# Altium footprint library Package_CSP.PcbLib: 127 footprints (part 6 of 8)
Each footprint in its own frame and in the unit in brackets; x right, y up, seen from the top. Pads: shape width x height; smd on the part's side, far side on the other; paste and mask are expansions set on the pad; w line width, h text height; cw(c..) or ccw(c..) is an arc to the next point about the centre after c.
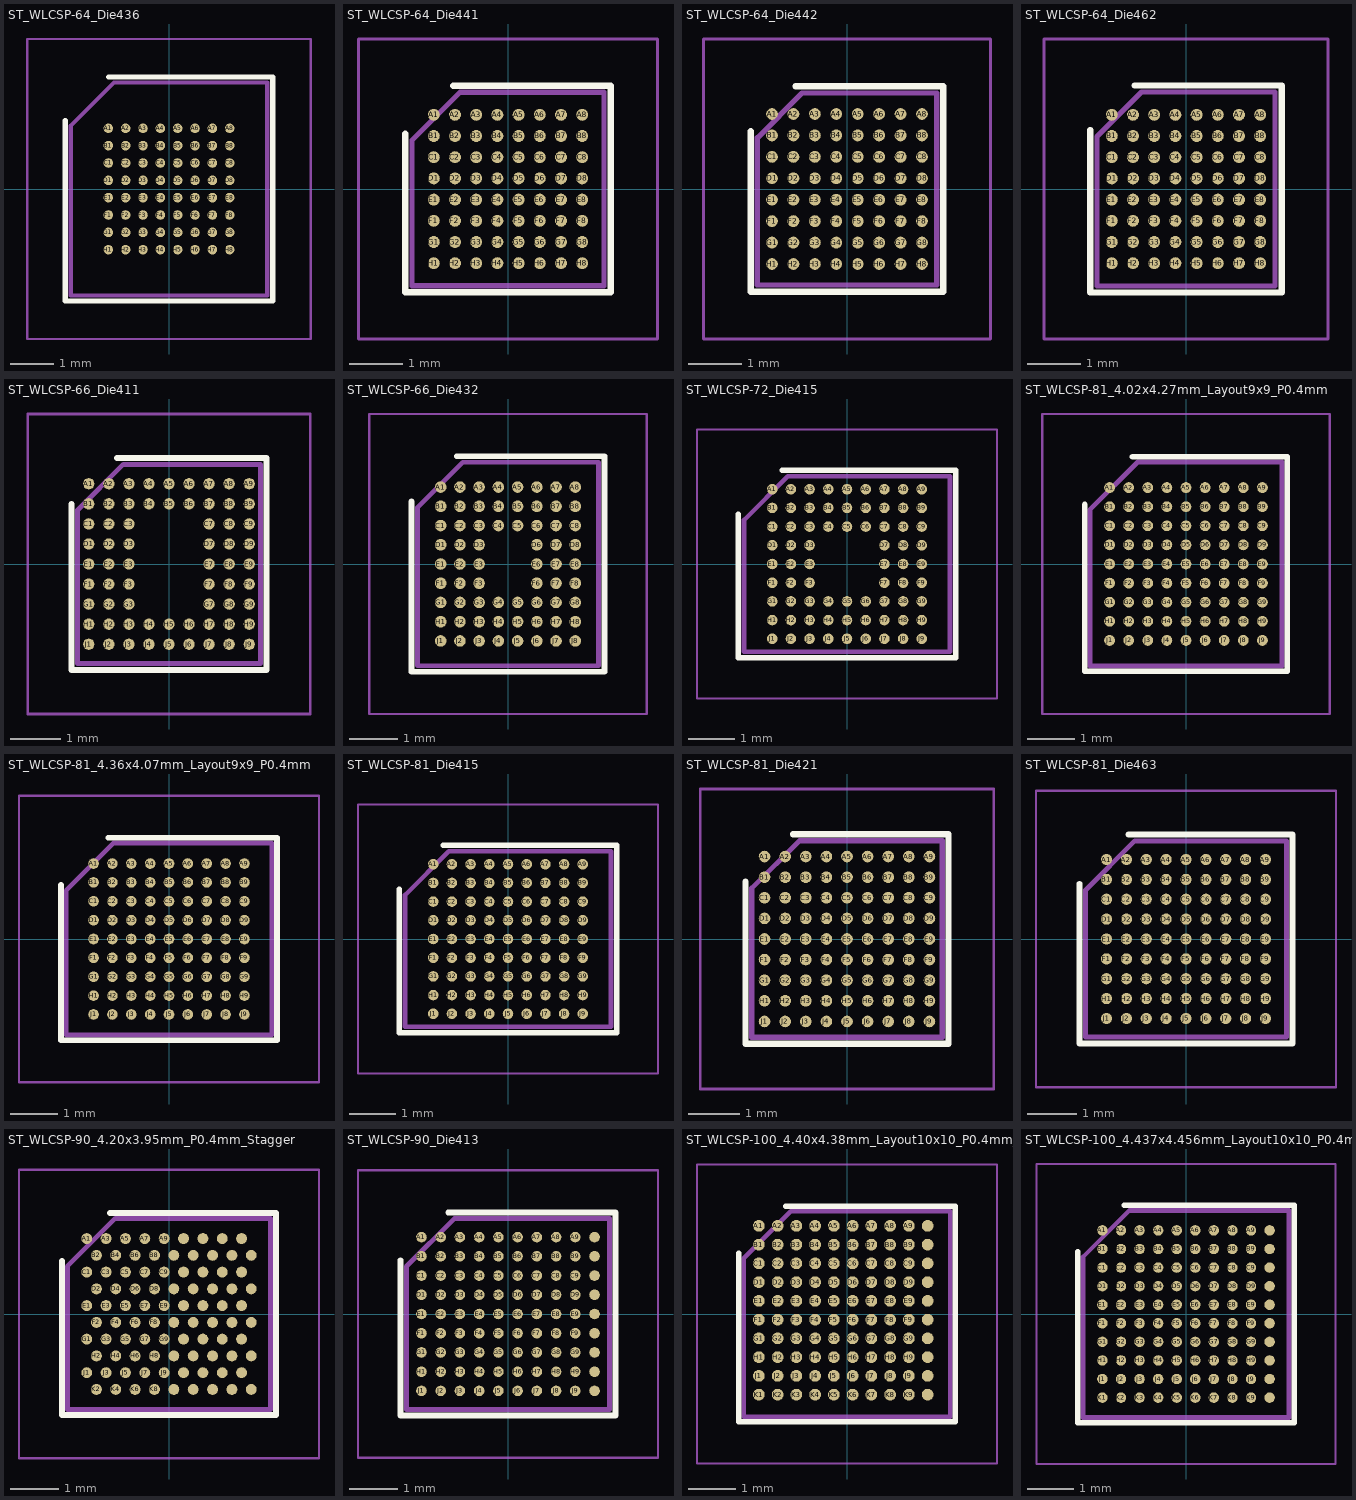
[diagram p5: the footprints below, top view; thin cyan lines are the x and y axes]

## ST_WLCSP-64_Die436 [mm]
pads (64):
  round 0.22 smd: A1(-1.4,1.4) A2(-1,1.4) A3(-0.6,1.4) A4(-0.2,1.4) A5(0.2,1.4) A6(0.6,1.4) A7(1,1.4) A8(1.4,1.4) B1(-1.4,1) B2(-1,1) B3(-0.6,1) B4(-0.2,1) B5(0.2,1) B6(0.6,1) B7(1,1) B8(1.4,1) C1(-1.4,0.6) C2(-1,0.6) C3(-0.6,0.6) C4(-0.2,0.6) C5(0.2,0.6) C6(0.6,0.6) C7(1,0.6) C8(1.4,0.6) D1(-1.4,0.2) D2(-1,0.2) D3(-0.6,0.2) D4(-0.2,0.2) D5(0.2,0.2) D6(0.6,0.2) D7(1,0.2) D8(1.4,0.2) E1(-1.4,-0.2) E2(-1,-0.2) E3(-0.6,-0.2) E4(-0.2,-0.2) E5(0.2,-0.2) E6(0.6,-0.2) E7(1,-0.2) E8(1.4,-0.2) F1(-1.4,-0.6) F2(-1,-0.6) F3(-0.6,-0.6) F4(-0.2,-0.6) F5(0.2,-0.6) F6(0.6,-0.6) F7(1,-0.6) F8(1.4,-0.6) G1(-1.4,-1) G2(-1,-1) G3(-0.6,-1) G4(-0.2,-1) G5(0.2,-1) G6(0.6,-1) G7(1,-1) G8(1.4,-1) H1(-1.4,-1.4) H2(-1,-1.4) H3(-0.6,-1.4) H4(-0.2,-1.4) H5(0.2,-1.4) H6(0.6,-1.4) H7(1,-1.4) H8(1.4,-1.4)
F.SilkS:
  lines w0.12: -2.395,1.58 -2.395,-2.581 2.395,-2.581 2.395,2.581 -1.395,2.581
F.CrtYd:
  lines w0.05: -3.27,-3.46 3.27,-3.46 3.27,3.46 -3.27,3.46 -3.27,-3.46
F.Fab:
  lines w0.1: -2.27,-2.455 -2.27,1.455 -1.269,2.455 2.27,2.455 2.27,-2.455 -2.27,-2.455
  text "'.Designator'" at -4.047,-0.84 h1

## ST_WLCSP-64_Die441 [mm]
pads (64):
  round 0.225 smd: A1(-1.4,1.4) A2(-1,1.4) A3(-0.6,1.4) A4(-0.2,1.4) A5(0.2,1.4) A6(0.6,1.4) A7(1,1.4) A8(1.4,1.4) B1(-1.4,1) B2(-1,1) B3(-0.6,1) B4(-0.2,1) B5(0.2,1) B6(0.6,1) B7(1,1) B8(1.4,1) C1(-1.4,0.6) C2(-1,0.6) C3(-0.6,0.6) C4(-0.2,0.6) C5(0.2,0.6) C6(0.6,0.6) C7(1,0.6) C8(1.4,0.6) D1(-1.4,0.2) D2(-1,0.2) D3(-0.6,0.2) D4(-0.2,0.2) D5(0.2,0.2) D6(0.6,0.2) D7(1,0.2) D8(1.4,0.2) E1(-1.4,-0.2) E2(-1,-0.2) E3(-0.6,-0.2) E4(-0.2,-0.2) E5(0.2,-0.2) E6(0.6,-0.2) E7(1,-0.2) E8(1.4,-0.2) F1(-1.4,-0.6) F2(-1,-0.6) F3(-0.6,-0.6) F4(-0.2,-0.6) F5(0.2,-0.6) F6(0.6,-0.6) F7(1,-0.6) F8(1.4,-0.6) G1(-1.4,-1) G2(-1,-1) G3(-0.6,-1) G4(-0.2,-1) G5(0.2,-1) G6(0.6,-1) G7(1,-1) G8(1.4,-1) H1(-1.4,-1.4) H2(-1,-1.4) H3(-0.6,-1.4) H4(-0.2,-1.4) H5(0.2,-1.4) H6(0.6,-1.4) H7(1,-1.4) H8(1.4,-1.4)
F.SilkS:
  lines w0.12: -1.937,1.045 -1.937,-1.95 1.937,-1.95 1.937,1.95 -1.031,1.95
F.CrtYd:
  lines w0.05: -2.82,-2.83 2.82,-2.83 2.82,2.83 -2.82,2.83 -2.82,-2.83
F.Fab:
  lines w0.1: -1.812,-1.826 1.812,-1.826 1.812,1.826 -0.906,1.826 -1.812,0.92 -1.812,-1.826
  text "'.Designator'" at -3.399,-0.706 h0.84

## ST_WLCSP-64_Die442 [mm]
pads (64):
  round 0.22 smd: A1(-1.4,1.4) A2(-1,1.4) A3(-0.6,1.4) A4(-0.2,1.4) A5(0.2,1.4) A6(0.6,1.4) A7(1,1.4) A8(1.4,1.4) B1(-1.4,1) B2(-1,1) B3(-0.6,1) B4(-0.2,1) B5(0.2,1) B6(0.6,1) B7(1,1) B8(1.4,1) C1(-1.4,0.6) C2(-1,0.6) C3(-0.6,0.6) C4(-0.2,0.6) C5(0.2,0.6) C6(0.6,0.6) C7(1,0.6) C8(1.4,0.6) D1(-1.4,0.2) D2(-1,0.2) D3(-0.6,0.2) D4(-0.2,0.2) D5(0.2,0.2) D6(0.6,0.2) D7(1,0.2) D8(1.4,0.2) E1(-1.4,-0.2) E2(-1,-0.2) E3(-0.6,-0.2) E4(-0.2,-0.2) E5(0.2,-0.2) E6(0.6,-0.2) E7(1,-0.2) E8(1.4,-0.2) F1(-1.4,-0.6) F2(-1,-0.6) F3(-0.6,-0.6) F4(-0.2,-0.6) F5(0.2,-0.6) F6(0.6,-0.6) F7(1,-0.6) F8(1.4,-0.6) G1(-1.4,-1) G2(-1,-1) G3(-0.6,-1) G4(-0.2,-1) G5(0.2,-1) G6(0.6,-1) G7(1,-1) G8(1.4,-1) H1(-1.4,-1.4) H2(-1,-1.4) H3(-0.6,-1.4) H4(-0.2,-1.4) H5(0.2,-1.4) H6(0.6,-1.4) H7(1,-1.4) H8(1.4,-1.4)
F.SilkS:
  lines w0.12: -1.799,1.081 -1.799,-1.917 1.799,-1.917 1.799,1.917 -0.962,1.917
F.CrtYd:
  lines w0.05: -2.68,-2.8 2.68,-2.8 2.68,2.8 -2.68,2.8 -2.68,-2.8
F.Fab:
  lines w0.1: -1.673,-1.793 -1.673,0.956 -0.837,1.793 1.673,1.793 1.673,-1.793 -1.673,-1.793
  text "'.Designator'" at -3.156,-0.655 h0.78

## ST_WLCSP-64_Die462 [mm]
pads (64):
  round 0.225 smd: A1(-1.4,1.4) A2(-1,1.4) A3(-0.6,1.4) A4(-0.2,1.4) A5(0.2,1.4) A6(0.6,1.4) A7(1,1.4) A8(1.4,1.4) B1(-1.4,1) B2(-1,1) B3(-0.6,1) B4(-0.2,1) B5(0.2,1) B6(0.6,1) B7(1,1) B8(1.4,1) C1(-1.4,0.6) C2(-1,0.6) C3(-0.6,0.6) C4(-0.2,0.6) C5(0.2,0.6) C6(0.6,0.6) C7(1,0.6) C8(1.4,0.6) D1(-1.4,0.2) D2(-1,0.2) D3(-0.6,0.2) D4(-0.2,0.2) D5(0.2,0.2) D6(0.6,0.2) D7(1,0.2) D8(1.4,0.2) E1(-1.4,-0.2) E2(-1,-0.2) E3(-0.6,-0.2) E4(-0.2,-0.2) E5(0.2,-0.2) E6(0.6,-0.2) E7(1,-0.2) E8(1.4,-0.2) F1(-1.4,-0.6) F2(-1,-0.6) F3(-0.6,-0.6) F4(-0.2,-0.6) F5(0.2,-0.6) F6(0.6,-0.6) F7(1,-0.6) F8(1.4,-0.6) G1(-1.4,-1) G2(-1,-1) G3(-0.6,-1) G4(-0.2,-1) G5(0.2,-1) G6(0.6,-1) G7(1,-1) G8(1.4,-1) H1(-1.4,-1.4) H2(-1,-1.4) H3(-0.6,-1.4) H4(-0.2,-1.4) H5(0.2,-1.4) H6(0.6,-1.4) H7(1,-1.4) H8(1.4,-1.4)
F.SilkS:
  lines w0.12: -1.803,1.114 -1.803,-1.953 1.803,-1.953 1.803,1.953 -0.964,1.953
F.CrtYd:
  lines w0.05: -2.68,-2.83 -2.68,2.83 2.68,2.83 2.68,-2.83 -2.68,-2.83
F.Fab:
  lines w0.1: -1.679,-1.829 1.679,-1.829 1.679,1.829 -0.839,1.829 -1.679,0.989 -1.679,-1.829
  text "'.Designator'" at -3.156,-0.655 h0.78

## ST_WLCSP-66_Die411 [mm]
pads (66):
  round 0.225 smd: A1(-1.6,1.6) A2(-1.2,1.6) A3(-0.8,1.6) A4(-0.4,1.6) A5(0,1.6) A6(0.4,1.6) A7(0.8,1.6) A8(1.2,1.6) A9(1.6,1.6) B1(-1.6,1.2) B2(-1.2,1.2) B3(-0.8,1.2) B4(-0.4,1.2) B5(0,1.2) B6(0.4,1.2) B7(0.8,1.2) B8(1.2,1.2) B9(1.6,1.2) C1(-1.6,0.8) C2(-1.2,0.8) C3(-0.8,0.8) C7(0.8,0.8) C8(1.2,0.8) C9(1.6,0.8) D1(-1.6,0.4) D2(-1.2,0.4) D3(-0.8,0.4) D7(0.8,0.4) D8(1.2,0.4) D9(1.6,0.4) E1(-1.6,0) E2(-1.2,0) E3(-0.8,0) E7(0.8,0) E8(1.2,0) E9(1.6,0) F1(-1.6,-0.4) F2(-1.2,-0.4) F3(-0.8,-0.4) F7(0.8,-0.4) F8(1.2,-0.4) F9(1.6,-0.4) G1(-1.6,-0.8) G2(-1.2,-0.8) G3(-0.8,-0.8) G7(0.8,-0.8) G8(1.2,-0.8) G9(1.6,-0.8) H1(-1.6,-1.2) H2(-1.2,-1.2) H3(-0.8,-1.2) H4(-0.4,-1.2) H5(0,-1.2) H6(0.4,-1.2) H7(0.8,-1.2) H8(1.2,-1.2) H9(1.6,-1.2) J1(-1.6,-1.6) J2(-1.2,-1.6) J3(-0.8,-1.6) J4(-0.4,-1.6) J5(0,-1.6) J6(0.4,-1.6) J7(0.8,-1.6) J8(1.2,-1.6) J9(1.6,-1.6)
F.SilkS:
  lines w0.12: -1.944,1.201 -1.944,-2.111 1.944,-2.111 1.944,2.111 -1.035,2.111
F.CrtYd:
  lines w0.05: -2.82,-2.99 -2.82,2.99 2.82,2.99 2.82,-2.99 -2.82,-2.99
F.Fab:
  lines w0.1: -1.82,-1.986 1.82,-1.986 1.82,1.986 -0.91,1.986 -1.82,1.076 -1.82,-1.986
  text "'.Designator'" at -3.44,-0.714 h0.85

## ST_WLCSP-66_Die432 [mm]
pads (66):
  round 0.24 smd: A1(-1.4,1.6) A2(-1,1.6) A3(-0.6,1.6) A4(-0.2,1.6) A5(0.2,1.6) A6(0.6,1.6) A7(1,1.6) A8(1.4,1.6) B1(-1.4,1.2) B2(-1,1.2) B3(-0.6,1.2) B4(-0.2,1.2) B5(0.2,1.2) B6(0.6,1.2) B7(1,1.2) B8(1.4,1.2) C1(-1.4,0.8) C2(-1,0.8) C3(-0.6,0.8) C4(-0.2,0.8) C5(0.2,0.8) C6(0.6,0.8) C7(1,0.8) C8(1.4,0.8) D1(-1.4,0.4) D2(-1,0.4) D3(-0.6,0.4) D6(0.6,0.4) D7(1,0.4) D8(1.4,0.4) E1(-1.4,0) E2(-1,0) E3(-0.6,0) E6(0.6,0) E7(1,0) E8(1.4,0) F1(-1.4,-0.4) F2(-1,-0.4) F3(-0.6,-0.4) F6(0.6,-0.4) F7(1,-0.4) F8(1.4,-0.4) G1(-1.4,-0.8) G2(-1,-0.8) G3(-0.6,-0.8) G4(-0.2,-0.8) G5(0.2,-0.8) G6(0.6,-0.8) G7(1,-0.8) G8(1.4,-0.8) H1(-1.4,-1.2) H2(-1,-1.2) H3(-0.6,-1.2) H4(-0.2,-1.2) H5(0.2,-1.2) H6(0.6,-1.2) H7(1,-1.2) H8(1.4,-1.2) J1(-1.4,-1.6) J2(-1,-1.6) J3(-0.6,-1.6) J4(-0.2,-1.6) J5(0.2,-1.6) J6(0.6,-1.6) J7(1,-1.6) J8(1.4,-1.6)
F.SilkS:
  lines w0.12: -2.008,1.298 -2.008,-2.24 2.008,-2.24 2.008,2.24 -1.067,2.24
F.CrtYd:
  lines w0.05: -2.89,-3.12 2.89,-3.12 2.89,3.12 -2.89,3.12 -2.89,-3.12
F.Fab:
  lines w0.1: -1.883,-2.114 -1.883,1.173 -0.942,2.114 1.883,2.114 1.883,-2.114 -1.883,-2.114
  text "'.Designator'" at -3.561,-0.739 h0.88

## ST_WLCSP-72_Die415 [mm]
pads (72):
  round 0.225 smd: A1(-1.6,1.6) A2(-1.2,1.6) A3(-0.8,1.6) A4(-0.4,1.6) A5(0,1.6) A6(0.4,1.6) A7(0.8,1.6) A8(1.2,1.6) A9(1.6,1.6) B1(-1.6,1.2) B2(-1.2,1.2) B3(-0.8,1.2) B4(-0.4,1.2) B5(0,1.2) B6(0.4,1.2) B7(0.8,1.2) B8(1.2,1.2) B9(1.6,1.2) C1(-1.6,0.8) C2(-1.2,0.8) C3(-0.8,0.8) C4(-0.4,0.8) C5(0,0.8) C6(0.4,0.8) C7(0.8,0.8) C8(1.2,0.8) C9(1.6,0.8) D1(-1.6,0.4) D2(-1.2,0.4) D3(-0.8,0.4) D7(0.8,0.4) D8(1.2,0.4) D9(1.6,0.4) E1(-1.6,0) E2(-1.2,0) E3(-0.8,0) E7(0.8,0) E8(1.2,0) E9(1.6,0) F1(-1.6,-0.4) F2(-1.2,-0.4) F3(-0.8,-0.4) F7(0.8,-0.4) F8(1.2,-0.4) F9(1.6,-0.4) G1(-1.6,-0.8) G2(-1.2,-0.8) G3(-0.8,-0.8) G4(-0.4,-0.8) G5(0,-0.8) G6(0.4,-0.8) G7(0.8,-0.8) G8(1.2,-0.8) G9(1.6,-0.8) H1(-1.6,-1.2) H2(-1.2,-1.2) H3(-0.8,-1.2) H4(-0.4,-1.2) H5(0,-1.2) H6(0.4,-1.2) H7(0.8,-1.2) H8(1.2,-1.2) H9(1.6,-1.2) J1(-1.6,-1.6) J2(-1.2,-1.6) J3(-0.8,-1.6) J4(-0.4,-1.6) J5(0,-1.6) J6(0.4,-1.6) J7(0.8,-1.6) J8(1.2,-1.6) J9(1.6,-1.6)
F.SilkS:
  lines w0.12: -2.329,1.065 -2.329,-2.005 2.329,-2.005 2.329,2.005 -1.389,2.005
F.CrtYd:
  lines w0.05: -3.21,-2.88 -3.21,2.88 3.21,2.88 3.21,-2.88 -3.21,-2.88
F.Fab:
  lines w0.1: -2.204,-1.88 2.204,-1.88 2.204,1.88 -1.264,1.88 -2.204,0.94 -2.204,-1.88
  text "'.Designator'" at -4.047,-0.84 h1

## ST_WLCSP-81_4.02x4.27mm_Layout9x9_P0.4mm [mm]
pads (81):
  round 0.225 smd: A1(-1.6,1.6) A2(-1.2,1.6) A3(-0.8,1.6) A4(-0.4,1.6) A5(0,1.6) A6(0.4,1.6) A7(0.8,1.6) A8(1.2,1.6) A9(1.6,1.6) B1(-1.6,1.2) B2(-1.2,1.2) B3(-0.8,1.2) B4(-0.4,1.2) B5(0,1.2) B6(0.4,1.2) B7(0.8,1.2) B8(1.2,1.2) B9(1.6,1.2) C1(-1.6,0.8) C2(-1.2,0.8) C3(-0.8,0.8) C4(-0.4,0.8) C5(0,0.8) C6(0.4,0.8) C7(0.8,0.8) C8(1.2,0.8) C9(1.6,0.8) D1(-1.6,0.4) D2(-1.2,0.4) D3(-0.8,0.4) D4(-0.4,0.4) D5(0,0.4) D6(0.4,0.4) D7(0.8,0.4) D8(1.2,0.4) D9(1.6,0.4) E1(-1.6,0) E2(-1.2,0) E3(-0.8,0) E4(-0.4,0) E5(0,0) E6(0.4,0) E7(0.8,0) E8(1.2,0) E9(1.6,0) F1(-1.6,-0.4) F2(-1.2,-0.4) F3(-0.8,-0.4) F4(-0.4,-0.4) F5(0,-0.4) F6(0.4,-0.4) F7(0.8,-0.4) F8(1.2,-0.4) F9(1.6,-0.4) G1(-1.6,-0.8) G2(-1.2,-0.8) G3(-0.8,-0.8) G4(-0.4,-0.8) G5(0,-0.8) G6(0.4,-0.8) G7(0.8,-0.8) G8(1.2,-0.8) G9(1.6,-0.8) H1(-1.6,-1.2) H2(-1.2,-1.2) H3(-0.8,-1.2) H4(-0.4,-1.2) H5(0,-1.2) H6(0.4,-1.2) H7(0.8,-1.2) H8(1.2,-1.2) H9(1.6,-1.2) J1(-1.6,-1.6) J2(-1.2,-1.6) J3(-0.8,-1.6) J4(-0.4,-1.6) J5(0,-1.6) J6(0.4,-1.6) J7(0.8,-1.6) J8(1.2,-1.6) J9(1.6,-1.6)
F.SilkS:
  lines w0.12: -2.12,1.245 -2.12,-2.245 2.12,-2.245 2.12,2.245 -1.12,2.245
F.CrtYd:
  lines w0.05: -3.01,-3.14 -3.01,3.14 3.01,3.14 3.01,-3.14 -3.01,-3.14
F.Fab:
  lines w0.1: -2.01,-2.135 2.01,-2.135 2.01,2.135 -1.01,2.135 -2.01,1.135 -2.01,-2.135
  text "'.Designator'" at -0.832,4.006 h0.99

## ST_WLCSP-81_4.36x4.07mm_Layout9x9_P0.4mm [mm]
pads (81):
  round 0.225 smd: A1(-1.6,1.6) A2(-1.2,1.6) A3(-0.8,1.6) A4(-0.4,1.6) A5(0,1.6) A6(0.4,1.6) A7(0.8,1.6) A8(1.2,1.6) A9(1.6,1.6) B1(-1.6,1.2) B2(-1.2,1.2) B3(-0.8,1.2) B4(-0.4,1.2) B5(0,1.2) B6(0.4,1.2) B7(0.8,1.2) B8(1.2,1.2) B9(1.6,1.2) C1(-1.6,0.8) C2(-1.2,0.8) C3(-0.8,0.8) C4(-0.4,0.8) C5(0,0.8) C6(0.4,0.8) C7(0.8,0.8) C8(1.2,0.8) C9(1.6,0.8) D1(-1.6,0.4) D2(-1.2,0.4) D3(-0.8,0.4) D4(-0.4,0.4) D5(0,0.4) D6(0.4,0.4) D7(0.8,0.4) D8(1.2,0.4) D9(1.6,0.4) E1(-1.6,0) E2(-1.2,0) E3(-0.8,0) E4(-0.4,0) E5(0,0) E6(0.4,0) E7(0.8,0) E8(1.2,0) E9(1.6,0) F1(-1.6,-0.4) F2(-1.2,-0.4) F3(-0.8,-0.4) F4(-0.4,-0.4) F5(0,-0.4) F6(0.4,-0.4) F7(0.8,-0.4) F8(1.2,-0.4) F9(1.6,-0.4) G1(-1.6,-0.8) G2(-1.2,-0.8) G3(-0.8,-0.8) G4(-0.4,-0.8) G5(0,-0.8) G6(0.4,-0.8) G7(0.8,-0.8) G8(1.2,-0.8) G9(1.6,-0.8) H1(-1.6,-1.2) H2(-1.2,-1.2) H3(-0.8,-1.2) H4(-0.4,-1.2) H5(0,-1.2) H6(0.4,-1.2) H7(0.8,-1.2) H8(1.2,-1.2) H9(1.6,-1.2) J1(-1.6,-1.6) J2(-1.2,-1.6) J3(-0.8,-1.6) J4(-0.4,-1.6) J5(0,-1.6) J6(0.4,-1.6) J7(0.8,-1.6) J8(1.2,-1.6) J9(1.6,-1.6)
F.SilkS:
  lines w0.12: -2.29,1.145 -2.29,-2.145 2.29,-2.145 2.29,2.145 -1.29,2.145
F.CrtYd:
  lines w0.05: -3.18,-3.04 -3.18,3.04 3.18,3.04 3.18,-3.04 -3.18,-3.04
F.Fab:
  lines w0.1: -2.18,-2.035 2.18,-2.035 2.18,2.035 -1.18,2.035 -2.18,1.035 -2.18,-2.035
  text "'.Designator'" at -4.047,-0.84 h1

## ST_WLCSP-81_Die415 [mm]
pads (81):
  round 0.225 smd: A1(-1.6,1.6) A2(-1.2,1.6) A3(-0.8,1.6) A4(-0.4,1.6) A5(0,1.6) A6(0.4,1.6) A7(0.8,1.6) A8(1.2,1.6) A9(1.6,1.6) B1(-1.6,1.2) B2(-1.2,1.2) B3(-0.8,1.2) B4(-0.4,1.2) B5(0,1.2) B6(0.4,1.2) B7(0.8,1.2) B8(1.2,1.2) B9(1.6,1.2) C1(-1.6,0.8) C2(-1.2,0.8) C3(-0.8,0.8) C4(-0.4,0.8) C5(0,0.8) C6(0.4,0.8) C7(0.8,0.8) C8(1.2,0.8) C9(1.6,0.8) D1(-1.6,0.4) D2(-1.2,0.4) D3(-0.8,0.4) D4(-0.4,0.4) D5(0,0.4) D6(0.4,0.4) D7(0.8,0.4) D8(1.2,0.4) D9(1.6,0.4) E1(-1.6,0) E2(-1.2,0) E3(-0.8,0) E4(-0.4,0) E5(0,0) E6(0.4,0) E7(0.8,0) E8(1.2,0) E9(1.6,0) F1(-1.6,-0.4) F2(-1.2,-0.4) F3(-0.8,-0.4) F4(-0.4,-0.4) F5(0,-0.4) F6(0.4,-0.4) F7(0.8,-0.4) F8(1.2,-0.4) F9(1.6,-0.4) G1(-1.6,-0.8) G2(-1.2,-0.8) G3(-0.8,-0.8) G4(-0.4,-0.8) G5(0,-0.8) G6(0.4,-0.8) G7(0.8,-0.8) G8(1.2,-0.8) G9(1.6,-0.8) H1(-1.6,-1.2) H2(-1.2,-1.2) H3(-0.8,-1.2) H4(-0.4,-1.2) H5(0,-1.2) H6(0.4,-1.2) H7(0.8,-1.2) H8(1.2,-1.2) H9(1.6,-1.2) J1(-1.6,-1.6) J2(-1.2,-1.6) J3(-0.8,-1.6) J4(-0.4,-1.6) J5(0,-1.6) J6(0.4,-1.6) J7(0.8,-1.6) J8(1.2,-1.6) J9(1.6,-1.6)
F.SilkS:
  lines w0.12: -2.329,1.065 -2.329,-2.005 2.329,-2.005 2.329,2.005 -1.389,2.005
F.CrtYd:
  lines w0.05: -3.21,-2.88 -3.21,2.88 3.21,2.88 3.21,-2.88 -3.21,-2.88
F.Fab:
  lines w0.1: -2.204,-1.88 2.204,-1.88 2.204,1.88 -1.264,1.88 -2.204,0.94 -2.204,-1.88
  text "'.Designator'" at -4.047,-0.84 h1

## ST_WLCSP-81_Die421 [mm]
pads (81):
  round 0.225 smd: A1(-1.6,1.6) A2(-1.2,1.6) A3(-0.8,1.6) A4(-0.4,1.6) A5(0,1.6) A6(0.4,1.6) A7(0.8,1.6) A8(1.2,1.6) A9(1.6,1.6) B1(-1.6,1.2) B2(-1.2,1.2) B3(-0.8,1.2) B4(-0.4,1.2) B5(0,1.2) B6(0.4,1.2) B7(0.8,1.2) B8(1.2,1.2) B9(1.6,1.2) C1(-1.6,0.8) C2(-1.2,0.8) C3(-0.8,0.8) C4(-0.4,0.8) C5(0,0.8) C6(0.4,0.8) C7(0.8,0.8) C8(1.2,0.8) C9(1.6,0.8) D1(-1.6,0.4) D2(-1.2,0.4) D3(-0.8,0.4) D4(-0.4,0.4) D5(0,0.4) D6(0.4,0.4) D7(0.8,0.4) D8(1.2,0.4) D9(1.6,0.4) E1(-1.6,0) E2(-1.2,0) E3(-0.8,0) E4(-0.4,0) E5(0,0) E6(0.4,0) E7(0.8,0) E8(1.2,0) E9(1.6,0) F1(-1.6,-0.4) F2(-1.2,-0.4) F3(-0.8,-0.4) F4(-0.4,-0.4) F5(0,-0.4) F6(0.4,-0.4) F7(0.8,-0.4) F8(1.2,-0.4) F9(1.6,-0.4) G1(-1.6,-0.8) G2(-1.2,-0.8) G3(-0.8,-0.8) G4(-0.4,-0.8) G5(0,-0.8) G6(0.4,-0.8) G7(0.8,-0.8) G8(1.2,-0.8) G9(1.6,-0.8) H1(-1.6,-1.2) H2(-1.2,-1.2) H3(-0.8,-1.2) H4(-0.4,-1.2) H5(0,-1.2) H6(0.4,-1.2) H7(0.8,-1.2) H8(1.2,-1.2) H9(1.6,-1.2) J1(-1.6,-1.6) J2(-1.2,-1.6) J3(-0.8,-1.6) J4(-0.4,-1.6) J5(0,-1.6) J6(0.4,-1.6) J7(0.8,-1.6) J8(1.2,-1.6) J9(1.6,-1.6)
F.SilkS:
  lines w0.12: -1.971,1.109 -1.971,-2.033 1.971,-2.033 1.971,2.033 -1.048,2.033
F.CrtYd:
  lines w0.05: -2.85,-2.91 -2.85,2.91 2.85,2.91 2.85,-2.91 -2.85,-2.91
F.Fab:
  lines w0.1: -1.847,-1.907 -1.847,0.984 -0.923,1.907 1.847,1.907 1.847,-1.907 -1.847,-1.907
  text "'.Designator'" at -3.48,-0.723 h0.86

## ST_WLCSP-81_Die463 [mm]
pads (81):
  round 0.225 smd: A1(-1.6,1.6) A2(-1.2,1.6) A3(-0.8,1.6) A4(-0.4,1.6) A5(0,1.6) A6(0.4,1.6) A7(0.8,1.6) A8(1.2,1.6) A9(1.6,1.6) B1(-1.6,1.2) B2(-1.2,1.2) B3(-0.8,1.2) B4(-0.4,1.2) B5(0,1.2) B6(0.4,1.2) B7(0.8,1.2) B8(1.2,1.2) B9(1.6,1.2) C1(-1.6,0.8) C2(-1.2,0.8) C3(-0.8,0.8) C4(-0.4,0.8) C5(0,0.8) C6(0.4,0.8) C7(0.8,0.8) C8(1.2,0.8) C9(1.6,0.8) D1(-1.6,0.4) D2(-1.2,0.4) D3(-0.8,0.4) D4(-0.4,0.4) D5(0,0.4) D6(0.4,0.4) D7(0.8,0.4) D8(1.2,0.4) D9(1.6,0.4) E1(-1.6,0) E2(-1.2,0) E3(-0.8,0) E4(-0.4,0) E5(0,0) E6(0.4,0) E7(0.8,0) E8(1.2,0) E9(1.6,0) F1(-1.6,-0.4) F2(-1.2,-0.4) F3(-0.8,-0.4) F4(-0.4,-0.4) F5(0,-0.4) F6(0.4,-0.4) F7(0.8,-0.4) F8(1.2,-0.4) F9(1.6,-0.4) G1(-1.6,-0.8) G2(-1.2,-0.8) G3(-0.8,-0.8) G4(-0.4,-0.8) G5(0,-0.8) G6(0.4,-0.8) G7(0.8,-0.8) G8(1.2,-0.8) G9(1.6,-0.8) H1(-1.6,-1.2) H2(-1.2,-1.2) H3(-0.8,-1.2) H4(-0.4,-1.2) H5(0,-1.2) H6(0.4,-1.2) H7(0.8,-1.2) H8(1.2,-1.2) H9(1.6,-1.2) J1(-1.6,-1.6) J2(-1.2,-1.6) J3(-0.8,-1.6) J4(-0.4,-1.6) J5(0,-1.6) J6(0.4,-1.6) J7(0.8,-1.6) J8(1.2,-1.6) J9(1.6,-1.6)
F.SilkS:
  lines w0.12: -2.144,1.113 -2.144,-2.101 2.144,-2.101 2.144,2.101 -1.157,2.101
F.CrtYd:
  lines w0.05: -3.02,-2.98 -3.02,2.98 3.02,2.98 3.02,-2.98 -3.02,-2.98
F.Fab:
  lines w0.1: -2.02,-1.976 2.02,-1.976 2.02,1.976 -1.032,1.976 -2.02,0.988 -2.02,-1.976
  text "'.Designator'" at -3.804,-0.79 h0.94

## ST_WLCSP-90_4.20x3.95mm_P0.4mm_Stagger [mm]
pads (90):
  round 0.225 smd: A1(-1.7,1.559) A3(-1.3,1.559) A5(-0.9,1.559) A7(-0.5,1.559) A9(-0.1,1.559) A11(0.3,1.559) A13(0.7,1.559) A15(1.1,1.559) A17(1.5,1.559) B2(-1.5,1.212) B4(-1.1,1.212) B6(-0.7,1.212) B8(-0.3,1.212) B10(0.1,1.212) B12(0.5,1.212) B14(0.9,1.212) B16(1.3,1.212) B18(1.7,1.212) C1(-1.7,0.866) C3(-1.3,0.866) C5(-0.9,0.866) C7(-0.5,0.866) C9(-0.1,0.866) C11(0.3,0.866) C13(0.7,0.866) C15(1.1,0.866) C17(1.5,0.866) D2(-1.5,0.52) D4(-1.1,0.52) D6(-0.7,0.52) D8(-0.3,0.52) D10(0.1,0.52) D12(0.5,0.52) D14(0.9,0.52) D16(1.3,0.52) D18(1.7,0.52) E1(-1.7,0.173) E3(-1.3,0.173) E5(-0.9,0.173) E7(-0.5,0.173) E9(-0.1,0.173) E11(0.3,0.173) E13(0.7,0.173) E15(1.1,0.173) E17(1.5,0.173) F2(-1.5,-0.173) F4(-1.1,-0.173) F6(-0.7,-0.173) F8(-0.3,-0.173) F10(0.1,-0.173) F12(0.5,-0.173) F14(0.9,-0.173) F16(1.3,-0.173) F18(1.7,-0.173) G1(-1.7,-0.52) G3(-1.3,-0.52) G5(-0.9,-0.52) G7(-0.5,-0.52) G9(-0.1,-0.52) G11(0.3,-0.52) G13(0.7,-0.52) G15(1.1,-0.52) G17(1.5,-0.52) H2(-1.5,-0.866) H4(-1.1,-0.866) H6(-0.7,-0.866) H8(-0.3,-0.866) H10(0.1,-0.866) H12(0.5,-0.866) H14(0.9,-0.866) H16(1.3,-0.866) H18(1.7,-0.866) J1(-1.7,-1.212) J3(-1.3,-1.212) J5(-0.9,-1.212) J7(-0.5,-1.212) J9(-0.1,-1.212) J11(0.3,-1.212) J13(0.7,-1.212) J15(1.1,-1.212) J17(1.5,-1.212) K2(-1.5,-1.559) K4(-1.1,-1.559) K6(-0.7,-1.559) K8(-0.3,-1.559) K10(0.1,-1.559) K12(0.5,-1.559) K14(0.9,-1.559) K16(1.3,-1.559) K18(1.7,-1.559)
F.SilkS:
  lines w0.12: -2.21,1.098 -2.21,-2.085 2.21,-2.085 2.21,2.085 -1.222,2.085
F.CrtYd:
  lines w0.05: -3.1,-2.98 -3.1,2.98 3.1,2.98 3.1,-2.98 -3.1,-2.98
F.Fab:
  lines w0.1: -2.1,-1.975 2.1,-1.975 2.1,1.975 -1.112,1.975 -2.1,0.988 -2.1,-1.975
  text "'.Designator'" at -3.966,-0.824 h0.98

## ST_WLCSP-90_Die413 [mm]
pads (90):
  round 0.22 smd: A1(-1.8,1.6) A2(-1.4,1.6) A3(-1,1.6) A4(-0.6,1.6) A5(-0.2,1.6) A6(0.2,1.6) A7(0.6,1.6) A8(1,1.6) A9(1.4,1.6) A10(1.8,1.6) B1(-1.8,1.2) B2(-1.4,1.2) B3(-1,1.2) B4(-0.6,1.2) B5(-0.2,1.2) B6(0.2,1.2) B7(0.6,1.2) B8(1,1.2) B9(1.4,1.2) B10(1.8,1.2) C1(-1.8,0.8) C2(-1.4,0.8) C3(-1,0.8) C4(-0.6,0.8) C5(-0.2,0.8) C6(0.2,0.8) C7(0.6,0.8) C8(1,0.8) C9(1.4,0.8) C10(1.8,0.8) D1(-1.8,0.4) D2(-1.4,0.4) D3(-1,0.4) D4(-0.6,0.4) D5(-0.2,0.4) D6(0.2,0.4) D7(0.6,0.4) D8(1,0.4) D9(1.4,0.4) D10(1.8,0.4) E1(-1.8,0) E2(-1.4,0) E3(-1,0) E4(-0.6,0) E5(-0.2,0) E6(0.2,0) E7(0.6,0) E8(1,0) E9(1.4,0) E10(1.8,0) F1(-1.8,-0.4) F2(-1.4,-0.4) F3(-1,-0.4) F4(-0.6,-0.4) F5(-0.2,-0.4) F6(0.2,-0.4) F7(0.6,-0.4) F8(1,-0.4) F9(1.4,-0.4) F10(1.8,-0.4) G1(-1.8,-0.8) G2(-1.4,-0.8) G3(-1,-0.8) G4(-0.6,-0.8) G5(-0.2,-0.8) G6(0.2,-0.8) G7(0.6,-0.8) G8(1,-0.8) G9(1.4,-0.8) G10(1.8,-0.8) H1(-1.8,-1.2) H2(-1.4,-1.2) H3(-1,-1.2) H4(-0.6,-1.2) H5(-0.2,-1.2) H6(0.2,-1.2) H7(0.6,-1.2) H8(1,-1.2) H9(1.4,-1.2) H10(1.8,-1.2) J1(-1.8,-1.6) J2(-1.4,-1.6) J3(-1,-1.6) J4(-0.6,-1.6) J5(-0.2,-1.6) J6(0.2,-1.6) J7(0.6,-1.6) J8(1,-1.6) J9(1.4,-1.6) J10(1.8,-1.6)
F.SilkS:
  lines w0.12: -2.237,1.117 -2.237,-2.11 2.237,-2.11 2.237,2.11 -1.244,2.11
F.CrtYd:
  lines w0.05: -3.12,-2.99 -3.12,2.99 3.12,2.99 3.12,-2.99 -3.12,-2.99
F.Fab:
  lines w0.1: -2.111,-1.984 2.111,-1.984 2.111,1.984 -1.119,1.984 -2.111,0.992 -2.111,-1.984
  text "'.Designator'" at -3.966,-0.824 h0.98

## ST_WLCSP-100_4.40x4.38mm_Layout10x10_P0.4mm_Offcenter [mm]
pads (100):
  round 0.25 smd: A1(-1.88,1.88) A2(-1.48,1.88) A3(-1.08,1.88) A4(-0.68,1.88) A5(-0.28,1.88) A6(0.12,1.88) A7(0.52,1.88) A8(0.92,1.88) A9(1.32,1.88) A10(1.72,1.88) B1(-1.88,1.48) B2(-1.48,1.48) B3(-1.08,1.48) B4(-0.68,1.48) B5(-0.28,1.48) B6(0.12,1.48) B7(0.52,1.48) B8(0.92,1.48) B9(1.32,1.48) B10(1.72,1.48) C1(-1.88,1.08) C2(-1.48,1.08) C3(-1.08,1.08) C4(-0.68,1.08) C5(-0.28,1.08) C6(0.12,1.08) C7(0.52,1.08) C8(0.92,1.08) C9(1.32,1.08) C10(1.72,1.08) D1(-1.88,0.68) D2(-1.48,0.68) D3(-1.08,0.68) D4(-0.68,0.68) D5(-0.28,0.68) D6(0.12,0.68) D7(0.52,0.68) D8(0.92,0.68) D9(1.32,0.68) D10(1.72,0.68) E1(-1.88,0.28) E2(-1.48,0.28) E3(-1.08,0.28) E4(-0.68,0.28) E5(-0.28,0.28) E6(0.12,0.28) E7(0.52,0.28) E8(0.92,0.28) E9(1.32,0.28) E10(1.72,0.28) F1(-1.88,-0.12) F2(-1.48,-0.12) F3(-1.08,-0.12) F4(-0.68,-0.12) F5(-0.28,-0.12) F6(0.12,-0.12) F7(0.52,-0.12) F8(0.92,-0.12) F9(1.32,-0.12) F10(1.72,-0.12) G1(-1.88,-0.52) G2(-1.48,-0.52) G3(-1.08,-0.52) G4(-0.68,-0.52) G5(-0.28,-0.52) G6(0.12,-0.52) G7(0.52,-0.52) G8(0.92,-0.52) G9(1.32,-0.52) G10(1.72,-0.52) H1(-1.88,-0.92) H2(-1.48,-0.92) H3(-1.08,-0.92) H4(-0.68,-0.92) H5(-0.28,-0.92) H6(0.12,-0.92) H7(0.52,-0.92) H8(0.92,-0.92) H9(1.32,-0.92) H10(1.72,-0.92) J1(-1.88,-1.32) J2(-1.48,-1.32) J3(-1.08,-1.32) J4(-0.68,-1.32) J5(-0.28,-1.32) J6(0.12,-1.32) J7(0.52,-1.32) J8(0.92,-1.32) J9(1.32,-1.32) J10(1.72,-1.32) K1(-1.88,-1.72) K2(-1.48,-1.72) K3(-1.08,-1.72) K4(-0.68,-1.72) K5(-0.28,-1.72) K6(0.12,-1.72) K7(0.52,-1.72) K8(0.92,-1.72) K9(1.32,-1.72) K10(1.72,-1.72)
F.SilkS:
  lines w0.12: -2.31,1.3 -2.31,-2.3 2.31,-2.3 2.31,2.3 -1.31,2.3
F.CrtYd:
  lines w0.05: -3.2,-3.19 -3.2,3.19 3.2,3.19 3.2,-3.19 -3.2,-3.19
F.Fab:
  lines w0.1: -2.2,-2.19 2.2,-2.19 2.2,2.19 -1.2,2.19 -2.2,1.19 -2.2,-2.19
  text "'.Designator'" at -4.047,-0.84 h1

## ST_WLCSP-100_4.437x4.456mm_Layout10x10_P0.4mm [mm]
pads (100):
  round 0.225 smd: A1(-1.8,1.8) A2(-1.4,1.8) A3(-1,1.8) A4(-0.6,1.8) A5(-0.2,1.8) A6(0.2,1.8) A7(0.6,1.8) A8(1,1.8) A9(1.4,1.8) A10(1.8,1.8) B1(-1.8,1.4) B2(-1.4,1.4) B3(-1,1.4) B4(-0.6,1.4) B5(-0.2,1.4) B6(0.2,1.4) B7(0.6,1.4) B8(1,1.4) B9(1.4,1.4) B10(1.8,1.4) C1(-1.8,1) C2(-1.4,1) C3(-1,1) C4(-0.6,1) C5(-0.2,1) C6(0.2,1) C7(0.6,1) C8(1,1) C9(1.4,1) C10(1.8,1) D1(-1.8,0.6) D2(-1.4,0.6) D3(-1,0.6) D4(-0.6,0.6) D5(-0.2,0.6) D6(0.2,0.6) D7(0.6,0.6) D8(1,0.6) D9(1.4,0.6) D10(1.8,0.6) E1(-1.8,0.2) E2(-1.4,0.2) E3(-1,0.2) E4(-0.6,0.2) E5(-0.2,0.2) E6(0.2,0.2) E7(0.6,0.2) E8(1,0.2) E9(1.4,0.2) E10(1.8,0.2) F1(-1.8,-0.2) F2(-1.4,-0.2) F3(-1,-0.2) F4(-0.6,-0.2) F5(-0.2,-0.2) F6(0.2,-0.2) F7(0.6,-0.2) F8(1,-0.2) F9(1.4,-0.2) F10(1.8,-0.2) G1(-1.8,-0.6) G2(-1.4,-0.6) G3(-1,-0.6) G4(-0.6,-0.6) G5(-0.2,-0.6) G6(0.2,-0.6) G7(0.6,-0.6) G8(1,-0.6) G9(1.4,-0.6) G10(1.8,-0.6) H1(-1.8,-1) H2(-1.4,-1) H3(-1,-1) H4(-0.6,-1) H5(-0.2,-1) H6(0.2,-1) H7(0.6,-1) H8(1,-1) H9(1.4,-1) H10(1.8,-1) J1(-1.8,-1.4) J2(-1.4,-1.4) J3(-1,-1.4) J4(-0.6,-1.4) J5(-0.2,-1.4) J6(0.2,-1.4) J7(0.6,-1.4) J8(1,-1.4) J9(1.4,-1.4) J10(1.8,-1.4) K1(-1.8,-1.8) K2(-1.4,-1.8) K3(-1,-1.8) K4(-0.6,-1.8) K5(-0.2,-1.8) K6(0.2,-1.8) K7(0.6,-1.8) K8(1,-1.8) K9(1.4,-1.8) K10(1.8,-1.8)
F.SilkS:
  lines w0.12: -2.328,1.338 -2.328,-2.338 2.328,-2.338 2.328,2.338 -1.328,2.338
F.CrtYd:
  lines w0.05: -3.22,-3.23 -3.22,3.23 3.22,3.23 3.22,-3.23 -3.22,-3.23
F.Fab:
  lines w0.1: -2.218,-2.228 2.218,-2.228 2.218,2.228 -1.218,2.228 -2.218,1.228 -2.218,-2.228
  text "'.Designator'" at -4.047,-0.84 h1